# Altium footprint library TO-247-4.PcbLib: 3 footprints
Each footprint in its own frame and in the unit in brackets; x right, y up, seen from the top. Pads: shape width x height; smd on the part's side, far side on the other; paste and mask are expansions set on the pad; w line width, h text height; cw(c..) or ccw(c..) is an arc to the next point about the centre after c.
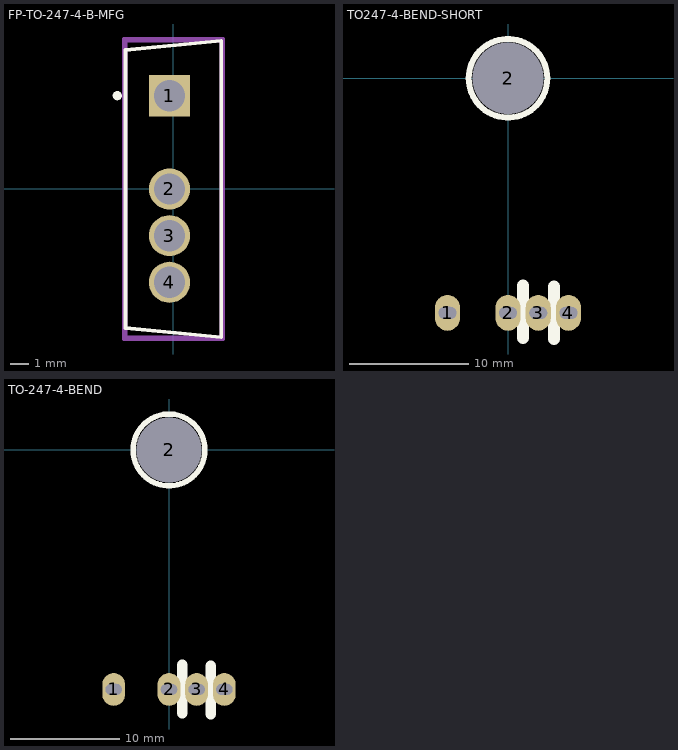
[diagram p0: the footprints below, top view; thin cyan lines are the x and y axes]

## FP-TO-247-4-B-MFG [mm] "FP-TO-247-4-B-MFG"
pads (4):
  rect 2.24x2.24 hole 1.7 paste-2539.97 mask+0: 1(-0.212,5.08)
  round 2.24 hole 1.7 paste-2539.97 mask+0: 2(-0.212,0) 3(-0.212,-2.54) 4(-0.212,-5.08)
Top Overlay:
  circle w0.25: c-3.05,5.08 r0.125
  lines w0.2: -2.605,-7.565 2.605,-8.065 2.605,8.065 -2.605,7.565 -2.605,-7.565
Top Assembly:
  lines w0.2: -2.705,-8.165 -2.705,8.165 2.705,8.165 2.705,-8.165 -2.705,-8.165
  text ".Designator" at 0,0.188 h1
Top 3D Body:
  lines w0.2: -2.605,-8.065 -2.605,8.065 2.605,8.065 2.605,-8.065 -2.605,-8.065
Top Courtyard:
  lines w0.2: -2.705,-8.165 -2.705,8.165 2.705,8.165 2.705,-8.165 -2.705,-8.165
Top Component Center:
  lines w0.1: -0.5,0 0.5,0 ; 0,-0.5 0,0.5
3D body "Trans_Wolfspeed_C3M0021120K_eec.STEP": height 0.25, standoff 0, extent -2.705,-8.165 2.705,8.165

## TO247-4-BEND-SHORT [mm]
pads (5):
  oval 2.1x3 hole 1 slot 1.5 at 0 deg: 1(-5.08,-19.7) 2(0,-19.7) 3(2.54,-19.7) 4(5.08,-19.7)
  round 5 hole 6: 2(0,0)
Top Overlay:
  circle w0.5: c0,0 r3.3
  lines w1: 1.245,-21.815 1.245,-17.395 ; 3.861,-21.891 3.861,-17.472
Bottom Overlay:
  circle w0.5: c0,0 r3.3
  lines w1: -6.401,-21.786 -6.401,-17.366 ; -3.632,-21.79 -3.632,-17.37 ; 1.27,-21.786 1.27,-17.366 ; 3.886,-21.862 3.886,-17.443
3D body "TO-247-4-H_FLIPPED короче ножки.STEP": height 4.04, standoff -9, extent -7.9,-20.05 7.9,6.15

## TO-247-4-BEND [mm]
pads (5):
  oval 2.1x3 hole 1 slot 1.5 at 0 deg: 1(-5.08,-22) 2(0,-22) 3(2.54,-22) 4(5.08,-22)
  round 5 hole 6: 2(0,0)
Top Overlay:
  circle w0.5: c0,0 r3.3
  lines w1: 1.219,-24.181 1.219,-19.761 ; 3.835,-24.257 3.835,-19.837
Bottom Overlay:
  circle w0.5: c0,0 r3.3
  lines w1: -6.426,-24.152 -6.426,-19.732 ; -3.658,-24.155 -3.658,-19.736 ; 1.245,-24.152 1.245,-19.732 ; 3.861,-24.228 3.861,-19.808
3D body "TO-247-4-H_FLIPPED.STEP": height 2, standoff -7, extent -7.9,-22.32 7.9,6.15